# Altium footprint library PCB - CONNECTOR - MOLEX - MOLEX 0533980371.PcbLib: 1 footprints
Each footprint in its own frame and in the unit in brackets; x right, y up, seen from the top. Pads: shape width x height; smd on the part's side, far side on the other; paste and mask are expansions set on the pad; w line width, h text height; cw(c..) or ccw(c..) is an arc to the next point about the centre after c.
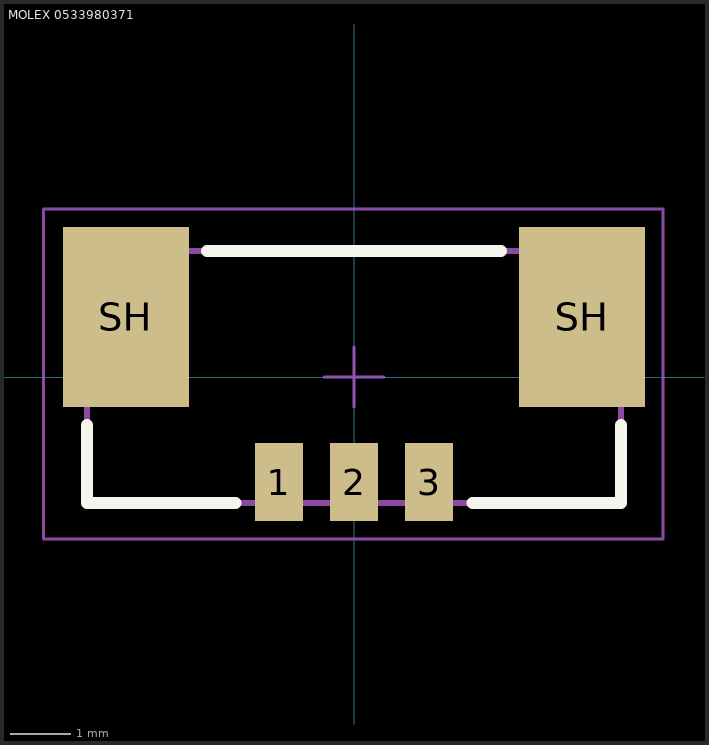
[diagram p0: the footprint, top view; thin cyan lines are the x and y axes]

## MOLEX 0533980371 [mm] "Connector Header Surface Mount 3 position, 1.25mm Pitch, 8.9x4.2 mm Body"
height 4.7
pads (5):
  rect 0.8x1.3 smd: 1(-1.25,-1.75) 2(0,-1.75) 3(1.25,-1.75)
  rect 2.1x3 smd: SH(-3.8,1) SH(3.8,1)
Top Overlay:
  lines w0.2: -4.45,-0.8 -4.45,-2.1 -1.975,-2.1 ; -2.45,2.1 0,2.1 ; 0,2.1 2.45,2.1 ; 1.975,-2.1 4.45,-2.1 4.45,-0.8
Mechanical 13:
  lines w0.1: -4.45,-2.1 -4.45,2.1 4.45,2.1 4.45,-2.1 -4.45,-2.1
Mechanical 15 (Mech15):
  lines w0.05: -0.5,0 0,0 ; 0,-0.5 0,0 ; 0,0.5 0,0 ; 0.5,0 0,0 ; -5.175,-2.7 -5.175,2.8 5.15,2.8 5.15,-2.7 -5.175,-2.7
3D body: height 4.75, standoff 0, extent -4.45,-2.1 4.45,2.1